# EAGLE library part PCA9546A_DGV_16 (library PCA9546A_DGV_16)
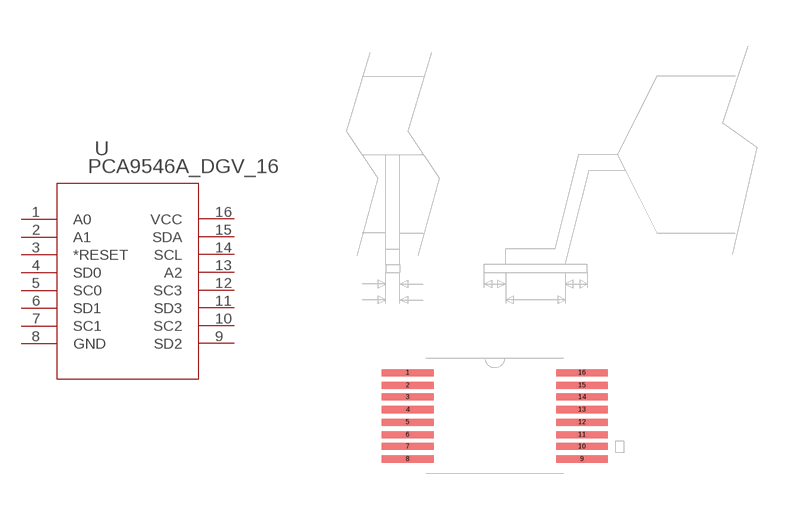
[diagram p0: symbol with the pads of DGV16; footprint DGV16]

Designator prefix U

## PCA9546A_DGV_16 (DATASHEETURL: http://www.ti.com/lit/gpn/PCA9546A; DESCRIPTION: 4-Channel I2C And SMBus Multiplexer With Reset Functions; FAMILY_NAME: I2C MULTIPLEXER, SWITCH; GENERIC_PART_NUMBER: PCA9546A; INDUSTRY_STD_PKG_TYPE: TVSOP; MANUFACTURER: Texas Instruments; MANUFACTURER_PART_NUMBER: pca9546a_dgv_16; PACKAGE_DESIGNATOR: DGV; PIN_COUNT: 16; VENDOR: Texas Instruments)  [DGV16]
1  A0  in
2  A1  in
3  *RESET  in
4  SD0  pas
5  SC0  pas
6  SD1  pas
7  SC1  pas
8  GND  pwr
9  SD2  pas
10  SC2  pas
11  SD3  pas
12  SC3  pas
13  A2  in
14  SCL  pas
15  SDA  pas
16  VCC  pwr

## Footprint DGV16 (pad centres in mm)
smd 1.676 x 0.229: 1 -2.819,1.397; 2 -2.819,0.991; 3 -2.819,0.61; 4 -2.819,0.203; 5 -2.819,-0.203; 6 -2.819,-0.61; 7 -2.819,-0.991; 8 -2.819,-1.397; 9 2.819,-1.397; 10 2.819,-0.991; 11 2.819,-0.61; 12 2.819,-0.203; 13 2.819,0.203; 14 2.819,0.61; 15 2.819,0.991; 16 2.819,1.397